# Altium footprint library PcbLib2.PcbLib: 10 footprints
Each footprint in its own frame and in the unit in brackets; x right, y up, seen from the top. Pads: shape width x height; smd on the part's side, far side on the other; paste and mask are expansions set on the pad; w line width, h text height; cw(c..) or ccw(c..) is an arc to the next point about the centre after c.
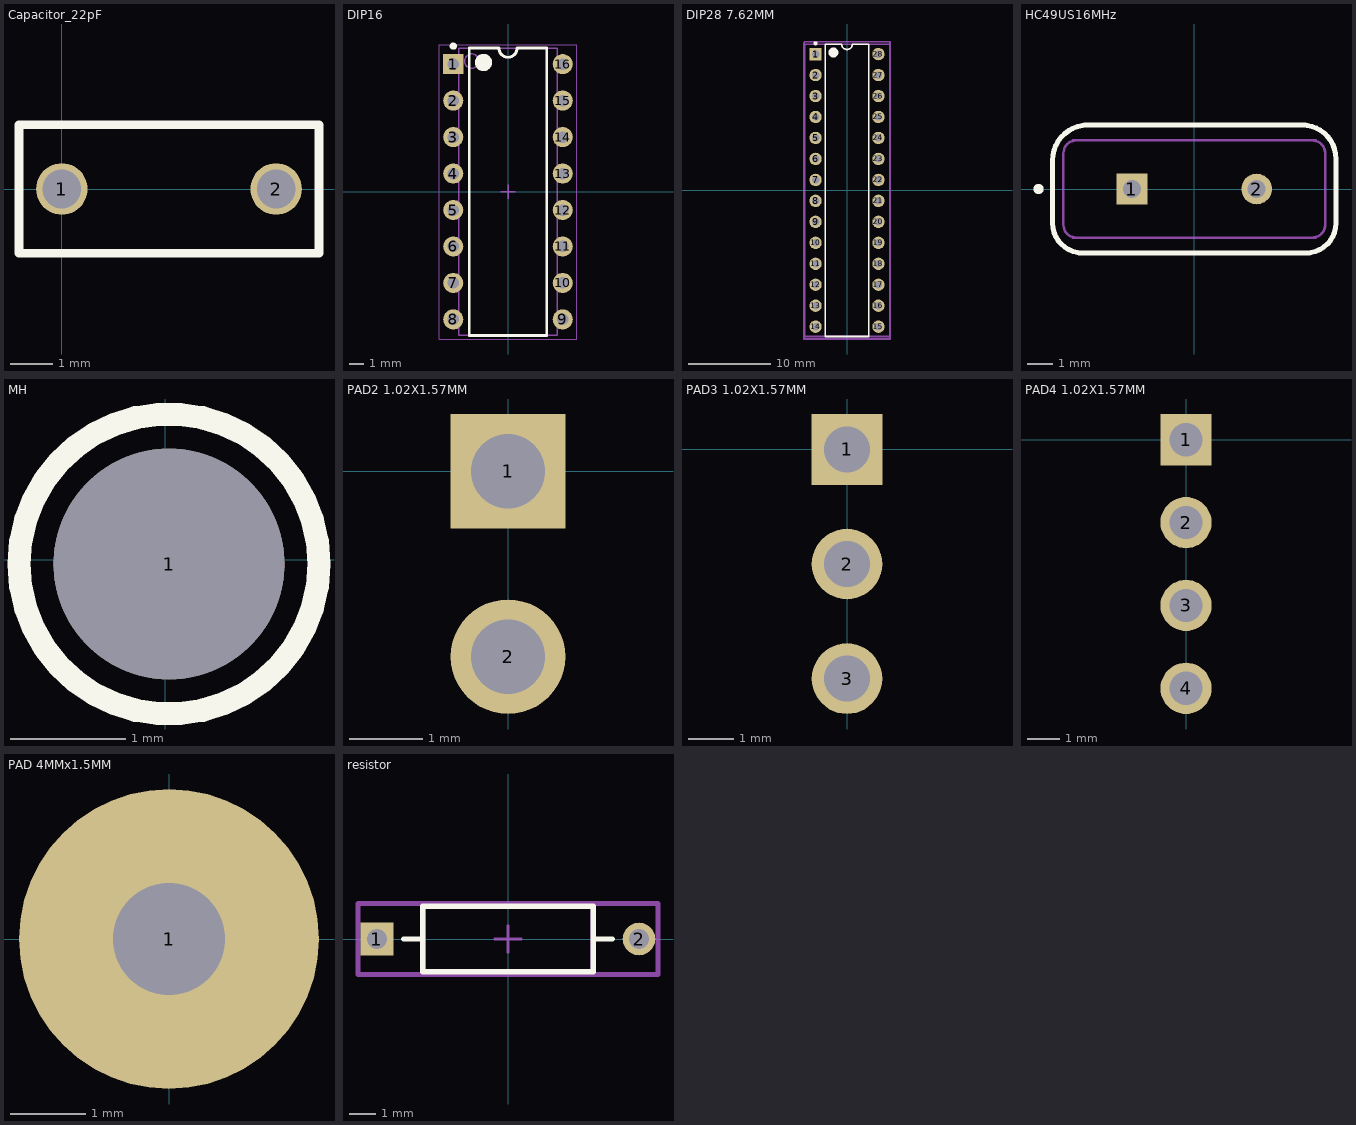
[diagram p0: the footprints below, top view; thin cyan lines are the x and y axes]

## Capacitor_22pF [mm]
pads (2):
  round 1.2 hole 0.9: 1(0,0) 2(5,0)
Top Overlay:
  lines w0.2: -1,-1.5 -1,1.5 0,1.5 6,1.5 6,-1.5 0,-1.5 -1,-1.5

## DIP16 [mm]
pads (16):
  rect 1.4x1.4 hole 0.8: 1(-3.81,8.89)
  round 1.4 hole 0.8: 2(-3.81,6.35) 3(-3.81,3.81) 4(-3.81,1.27) 5(-3.81,-1.27) 6(-3.81,-3.81) 7(-3.81,-6.35) 8(-3.81,-8.89) 9(3.81,-8.89) 10(3.81,-6.35) 11(3.81,-3.81) 12(3.81,-1.27) 13(3.81,1.27) 14(3.81,3.81) 15(3.81,6.35) 16(3.81,8.89)
Top Overlay:
  circle w0.25: c-3.81,10.14 r0.125
  circle w0.6: c-1.7,9 r0.3
  lines w0.2: -2.7,-10 -2.7,10 -0.635,10 ccw(c0,10) 0.635,10 2.7,10 2.7,-10 -2.7,-10
Mechanical 13:
  circle w0.1: c-2.525,9.1 r0.5
  lines w0.1: -3.425,-10 -3.425,10 3.425,10 3.425,-10 -3.425,-10
Mechanical 15:
  lines w0.05: -4.8,-10.25 -4.8,10.25 4.8,10.25 4.8,-10.25 -4.8,-10.25
  lines w0.1: -0.5,0 0.5,0 ; 0,-0.5 0,0.5
3D body: height 5.1, standoff 0.51, extent -3.425,-10 3.425,10
3D body: height 2.69, standoff 0, extent -3.93,8.44 -3.69,9.34
3D body: height 2.93, standoff 2.69, extent -3.93,8.44 -3.425,9.34
3D body: height 0, standoff -1.6, extent -3.93,8.57 -3.69,9.21
3D body: height 2.69, standoff 0, extent -3.93,5.9 -3.69,6.8
3D body: height 2.93, standoff 2.69, extent -3.93,5.9 -3.425,6.8
3D body: height 0, standoff -1.6, extent -3.93,6.03 -3.69,6.67
3D body: height 2.69, standoff 0, extent -3.93,3.36 -3.69,4.26
3D body: height 2.93, standoff 2.69, extent -3.93,3.36 -3.425,4.26
3D body: height 0, standoff -1.6, extent -3.93,3.49 -3.69,4.13
3D body: height 2.69, standoff 0, extent -3.93,0.82 -3.69,1.72
3D body: height 2.93, standoff 2.69, extent -3.93,0.82 -3.425,1.72
3D body: height 0, standoff -1.6, extent -3.93,0.95 -3.69,1.59
3D body: height 2.69, standoff 0, extent -3.93,-1.72 -3.69,-0.82
3D body: height 2.93, standoff 2.69, extent -3.93,-1.72 -3.425,-0.82
3D body: height 0, standoff -1.6, extent -3.93,-1.59 -3.69,-0.95
3D body: height 2.69, standoff 0, extent -3.93,-4.26 -3.69,-3.36
3D body: height 2.93, standoff 2.69, extent -3.93,-4.26 -3.425,-3.36
3D body: height 0, standoff -1.6, extent -3.93,-4.13 -3.69,-3.49
3D body: height 2.69, standoff 0, extent -3.93,-6.8 -3.69,-5.9
3D body: height 2.93, standoff 2.69, extent -3.93,-6.8 -3.425,-5.9
3D body: height 0, standoff -1.6, extent -3.93,-6.67 -3.69,-6.03
3D body: height 2.69, standoff 0, extent -3.93,-9.34 -3.69,-8.44
3D body: height 2.93, standoff 2.69, extent -3.93,-9.34 -3.425,-8.44
3D body: height 0, standoff -1.6, extent -3.93,-9.21 -3.69,-8.57
3D body: height 2.69, standoff 0, extent 3.69,-9.34 3.93,-8.44
3D body: height 2.93, standoff 2.69, extent 3.425,-9.34 3.93,-8.44
3D body: height 0, standoff -1.6, extent 3.69,-9.21 3.93,-8.57
3D body: height 2.69, standoff 0, extent 3.69,-6.8 3.93,-5.9
3D body: height 2.93, standoff 2.69, extent 3.425,-6.8 3.93,-5.9
3D body: height 0, standoff -1.6, extent 3.69,-6.67 3.93,-6.03
3D body: height 2.69, standoff 0, extent 3.69,-4.26 3.93,-3.36
3D body: height 2.93, standoff 2.69, extent 3.425,-4.26 3.93,-3.36
3D body: height 0, standoff -1.6, extent 3.69,-4.13 3.93,-3.49
3D body: height 2.69, standoff 0, extent 3.69,-1.72 3.93,-0.82
3D body: height 2.93, standoff 2.69, extent 3.425,-1.72 3.93,-0.82
3D body: height 0, standoff -1.6, extent 3.69,-1.59 3.93,-0.95
3D body: height 2.69, standoff 0, extent 3.69,0.82 3.93,1.72
3D body: height 2.93, standoff 2.69, extent 3.425,0.82 3.93,1.72
3D body: height 0, standoff -1.6, extent 3.69,0.95 3.93,1.59
3D body: height 2.69, standoff 0, extent 3.69,3.36 3.93,4.26
3D body: height 2.93, standoff 2.69, extent 3.425,3.36 3.93,4.26
3D body: height 0, standoff -1.6, extent 3.69,3.49 3.93,4.13
3D body: height 2.69, standoff 0, extent 3.69,5.9 3.93,6.8
3D body: height 2.93, standoff 2.69, extent 3.425,5.9 3.93,6.8
3D body: height 0, standoff -1.6, extent 3.69,6.03 3.93,6.67
3D body: height 2.69, standoff 0, extent 3.69,8.44 3.93,9.34
3D body: height 2.93, standoff 2.69, extent 3.425,8.44 3.93,9.34
3D body: height 0, standoff -1.6, extent 3.69,8.57 3.93,9.21

## DIP28 7.62MM [mm]
pads (28):
  rect 1.5x1.5 hole 0.9: 1(-3.81,16.51)
  round 1.5 hole 0.9: 2(-3.81,13.97) 3(-3.81,11.43) 4(-3.81,8.89) 5(-3.81,6.35) 6(-3.81,3.81) 7(-3.81,1.27) 8(-3.81,-1.27) 9(-3.81,-3.81) 10(-3.81,-6.35) 11(-3.81,-8.89) 12(-3.81,-11.43) 13(-3.81,-13.97) 14(-3.81,-16.51) 15(3.81,-16.51) 16(3.81,-13.97) 17(3.81,-11.43) 18(3.81,-8.89) 19(3.81,-6.35) 20(3.81,-3.81) 21(3.81,-1.27) 22(3.81,1.27) 23(3.81,3.81) 24(3.81,6.35) 25(3.81,8.89) 26(3.81,11.43) 27(3.81,13.97) 28(3.81,16.51)
Top Overlay:
  circle w0.25: c-3.81,17.81 r0.125
  circle w0.6: c-1.65,16.7 r0.3
  lines w0.2: -2.65,-17.7 -2.65,17.7 -0.635,17.7 ccw(c0,17.7) 0.635,17.7 2.65,17.7 2.65,-17.7 -2.65,-17.7
Mechanical 13:
  lines w0.2: -2.65,17.7 5.2,17.7 ; -0.635,17.7 -5.1,17.7 -5.1,-17.7 5.2,-17.7 ; 5.2,-17.7 5.2,17.7 ; 5.2,-17.7 5.2,-17.7 ; 5.2,17.7 5.2,17.7
Mechanical 29:
  lines w0.2: -5.2,-18 5.2,-18 5.2,18 0,18 -5.1,18 -5.2,17.9 -5.2,-18
  text ".Designator" at 0.067,-0.9 h1
3D body "User Library-28 pin dip-2.step": height 4.65, standoff -1.57, extent -3.937,-17.907 3.937,18.034

## HC49US16MHz [mm]
pads (2):
  rect 1.2x1.2 hole 0.7: 1(-2.44,0)
  round 1.2 hole 0.7: 2(2.44,0)
Top Overlay:
  circle w0.198: c-6.096,0 r0.1
  lines w0.2: -4.511,-2.5 4.511,-2.5 ; -4.384,-2.5 cw(c-4.384,-1.336) -5.548,-1.336 -5.548,1.126 cw(c-4.174,1.126) -4.174,2.5 ; -4.301,2.5 4.361,2.5 ; 4.234,2.5 cw(c4.234,1.186) 5.548,1.186 5.548,-1.336 cw(c4.384,-1.336) 4.384,-2.5
Mechanical 13:
  lines w0.1: -4.75,-1.9 4.75,-1.9 ; -4.75,1.9 4.75,1.9 ; -4.623,-1.9 cw(c-4.623,-1.4) -5.123,-1.4 -5.123,1.4 cw(c-4.623,1.4) -4.623,1.9 ; 4.174,2.5 cw(c4.174,1.126) 5.548,1.126 5.548,-1.336 cw(c4.384,-1.336) 4.384,-2.5 -4.418,-2.5 cw(c-4.418,-1.37) -5.548,-1.37 -5.548,1.126 cw(c-4.174,1.126) -4.174,2.5 4.445,2.5 ; 4.623,-1.9 ccw(c4.623,-1.4) 5.123,-1.4 5.123,1.4 ccw(c4.623,1.4) 4.623,1.9
3D body "User Library-HC-49.STEP": height 3.6, standoff -2.9, extent -5.4,-2.25 5.4,2.25

## MH [mm]
pads (1):
  round 2 hole 2 unplated: 1(0.031,-0.035)
Top Overlay:
  circle w0.2: c0.031,-0.035 r1.3

## PAD2 1.02X1.57MM [mm]
pads (2):
  rect 1.57x1.57 hole 1.02: 1(0,0)
  round 1.57 hole 1.02: 2(0,-2.54)

## PAD3 1.02X1.57MM [mm]
pads (3):
  rect 1.57x1.57 hole 1.02: 1(0,0)
  round 1.57 hole 1.02: 2(0,-2.54) 3(0,-5.08)

## PAD4 1.02X1.57MM [mm]
pads (4):
  rect 1.57x1.57 hole 1.02: 1(0,0)
  round 1.57 hole 1.02: 2(0,-2.54) 3(0,-5.08) 4(0,-7.62)

## PAD 4MMx1.5MM [mm]
pads (1):
  round 4 hole 1.5: 1(0,0)

## resistor [mm]
pads (2):
  rect 1.25x1.25 hole 0.75 paste-1000 mask+0: 1(-5,0)
  round 1.25 hole 0.75 paste-1000 mask+0: 2(5,0)
Top Overlay:
  lines w0.2: -3.975,0 -3.25,0 ; 3.25,0 3.975,0 ; -3.25,-1.25 3.25,-1.25 3.25,1.25 -3.25,1.25 -3.25,-1.25
Top 3D Body:
  lines w0.2: -3.25,-1.25 3.25,-1.25 3.25,1.25 -3.25,1.25 -3.25,-1.25
Board:
  lines w0.2: -5.725,-1.35 5.725,-1.35 5.725,1.35 -5.725,1.35 -5.725,-1.35
Top Assembly:
  lines w0.2: -5.725,-1.35 5.725,-1.35 5.725,1.35 -5.725,1.35 -5.725,-1.35
  text ".Designator" at 0,0.188 h1
Top Component Center:
  lines w0.1: -0.5,0 0.5,0 ; 0,-0.5 0,0.5
3D body "Res_Vishay_MRS25000C1910FCT00_eec.STEP": height 0.25, standoff 0, extent -5.725,-1.35 5.725,1.35